# Altium schematic symbol library HYM8563S.SchLib: 1 symbol
Pins are listed as number, name and electrical type; pins without a type are passive.

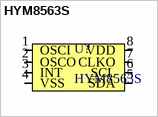
[diagram p0: symbol HYM8563S]

## HYM8563S
designator U?
footprint LC-MSOP-8
pins: 1 OSCI, 2 OSCO, 3 INT, 4 VSS, 5 SDA, 6 SCL, 7 CLKO, 8 VDD